# Altium schematic symbol library led.SCHLIB: 107 symbols
Pins are listed as number, name and electrical type; pins without a type are passive.

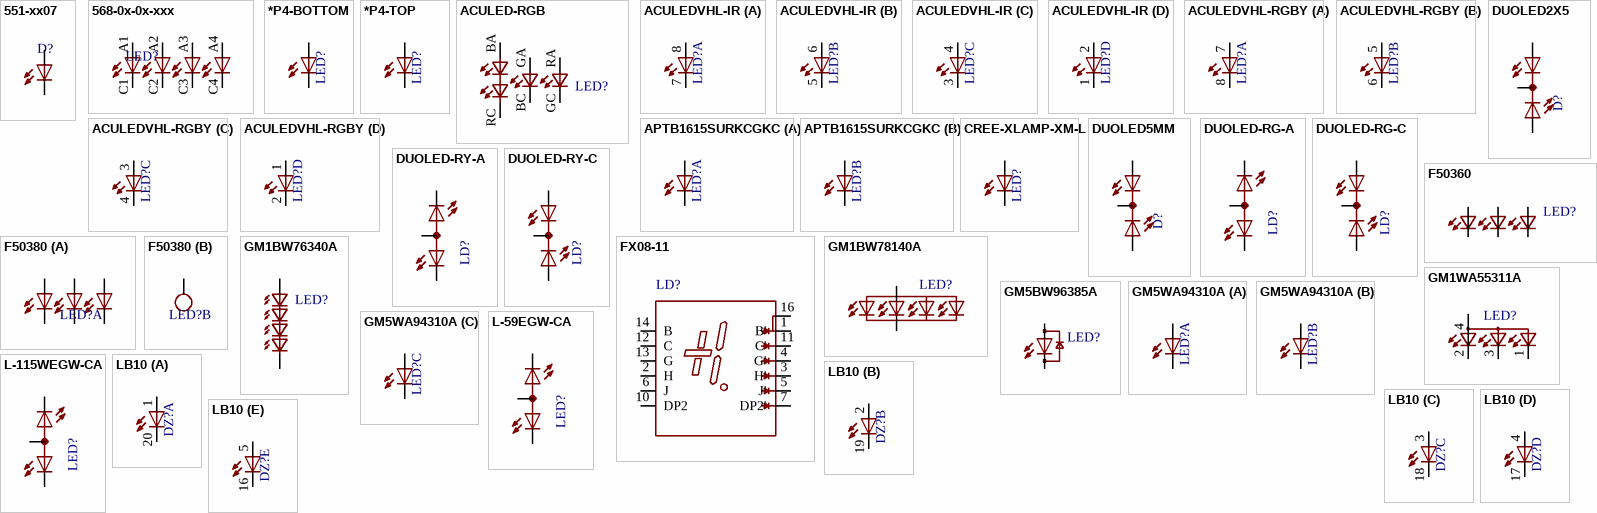
[diagram p0: symbols 551-xx07 to LB10]

## 551-xx07
designator D?
Colour: *
footprint 551-xx07 (LED CBI  Circuit Board Indicator)
pins: A, C

## 568-0x-0x-xxx
designator LED?  (value not drawn)
footprint 568-XX
pins: A1, A2, A3, A4, C1, C2, C3, C4

## *P4-BOTTOM
designator LED?
footprint P47F-BOTTOM
pins: A, C

## *P4-TOP
designator LED?
footprint P47F-TOP
pins: A, C

## ACULED-RGB
designator LED?
footprint ACULED-RGB
pins: BA GA, BC, GA BA, GC RC, RA, RC GC

## ACULEDVHL-IR
designator LED?
footprint ACULEDVHL
part A pins: 7 C, 8 A
part B pins: 5 C, 6 A
part C pins: 3 C, 4 A
part D pins: 1 C, 2 A

## ACULEDVHL-RGBY
designator LED?
footprint ACULEDVHL
part A pins: 7 A, 8 C
part B pins: 5 A, 6 C
part C pins: 3 A, 4 C
part D pins: 1 A, 2 C

## APTB1615SURKCGKC
designator LED?  (value not drawn)
Vendor: Kingbright; Part Number: APTB1615SURKCGKC
footprint APTB1615SURKCGKC
part A pins: A1, C1
part B pins: A2, C2

## CREE-XLAMP-XM-L
designator LED?
footprint CREE-XLAMP-XM-L
pins: A@1 A, C@1 C

## DUOLED2X5
designator D?
footprint DUOLED2X5
pins: AG, AR, K C

## DUOLED5MM
designator D?
footprint DUOLED5MM
pins: AG, AR, K C

## DUOLED-RG-A
designator LD?
footprint DUOLED-A-5MM
pins: A, CR, CX CG

## DUOLED-RG-C
designator LD?
footprint DUOLED-C-5MM
pins: AR, AX AG, C

## DUOLED-RY-A
designator LD?
footprint DUOLED-A-5MM
pins: A, CR, CX CY

## DUOLED-RY-C
designator LD?
footprint DUOLED-C-5MM
pins: AR, AX AY, C

## F50360
designator LED?
footprint F50360
pins: BA, BC, GA, GC, RA, RC

## F50380
designator LED?
footprint F50380
part A pins: B+, B-, G+, G-, R+, R-
part B pins: TH

## FX08-11
designator LD?
footprint FX08
pins: 1 B', 2 H, 3 H', 4 G', 5 J', 6 J, 7 DP2', 10 DP2, 11 C', 12 C, 13 G, 14 B, 16 B_

## GM1BW76340A
designator LED?
footprint GM1BW78140A
pins: A, C

## GM1BW78140A
designator LED?
footprint GM1BW78140A
pins: A, C

## GM1WA55311A
designator LED?
footprint GM1WA55311A
pins: 1 CGREEN, 2 CRED, 3 CBLUE, 4 A

## GM5BW96385A
designator LED?
footprint GM5BW96385A
pins: A, C

## GM5WA94310A
designator LED?
footprint GM5WA94310A
part A pins: 2 A, 5 C
part B pins: 3 A, 4 C
part C pins: 1 A, 6 C

## L-59EGW-CA
designator LED?
footprint L-59EGW-CA
pins: 1 CR, 2 A, 3 CG

## L-115WEGW-CA
designator LED?
footprint DUOLED-A-3MM
pins: 1 CG, 2 A, 3 CR

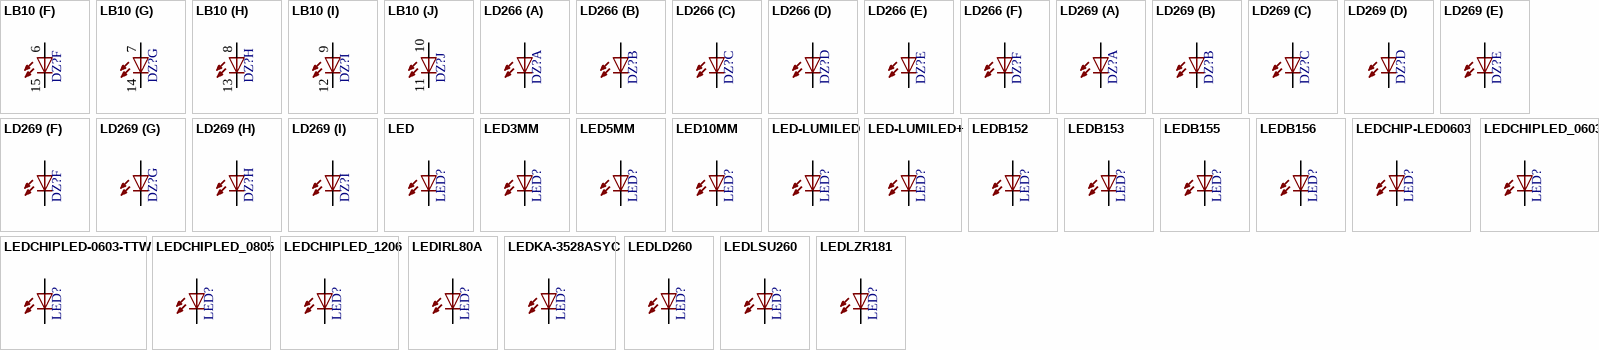
[diagram p1: symbols LB10 to LEDLZR181]

## LB10
designator DZ?
footprint LB10
part A pins: 1 A, 20 C
part B pins: 2 A, 19 C
part C pins: 3 A, 18 C
part D pins: 4 A, 17 C
part E pins: 5 A, 16 C
part F pins: 6 A, 15 C
part G pins: 7 A, 14 C
part H pins: 8 A, 13 C
part I pins: 9 A, 12 C
part J pins: 10 A, 11 C

## LD266
designator DZ?
footprint LD266
part A pins: A1 A, K1 C
part B pins: A2 A, K2 C
part C pins: A3 A, K3 C
part D pins: A4 A, K4 C
part E pins: A5 A, K5 C
part F pins: A6 A, K6 C

## LD269
designator DZ?
footprint LD269
part A pins: A1 A, K1 C
part B pins: A2 A, K2 C
part C pins: A3 A, K3 C
part D pins: A4 A, K4 C
part E pins: A5 A, K5 C
part F pins: A6 A, K6 C
part G pins: A7 A, K7 C
part H pins: A8 A, K8 C
part I pins: A9 A, K9 C

## LED
designator LED?
footprint SMARTLED-TTW
pins: A@1 A, C@1 C

## LED3MM
designator LED?
footprint LED3MM
pins: A, K C

## LED5MM
designator LED?
footprint LED5MM
pins: A, K C

## LED10MM
designator LED?
footprint LED10MM
pins: A, K C

## LED-LUMILED
designator LED?
footprint LUMILED
pins: 2+ A, 4- C

## LED-LUMILED+
designator LED?
footprint LUMILED+
pins: 2+ A, 4- C

## LEDB152
designator LED?
footprint Q62902-B152
pins: A, K C

## LEDB153
designator LED?
footprint Q62902-B153
pins: A, K C

## LEDB155
designator LED?
footprint Q62902-B155
pins: A, K C

## LEDB156
designator LED?
footprint Q62902-B156
pins: A, K C

## LEDCHIP-LED0603
designator LED?
footprint CHIP-LED0603
pins: A, C

## LEDCHIPLED-0603-TTW
designator LED?
footprint CHIPLED-0603-TTW
pins: A@1 A, C@1 C

## LEDCHIPLED_0603
designator LED?
footprint CHIPLED_0603
pins: A, C

## LEDCHIPLED_0805
designator LED?
footprint CHIPLED_0805
pins: A, C

## LEDCHIPLED_1206
designator LED?
footprint CHIPLED_1206
pins: A, C

## LEDIRL80A
designator LED?
footprint IRL80A
pins: A, K C

## LEDKA-3528ASYC
designator LED?
footprint KA-3528ASYC
pins: A, C

## LEDLD260
designator LED?
footprint LD260
pins: A, K C

## LEDLSU260
designator LED?
footprint LSU260
pins: A, K C

## LEDLZR181
designator LED?
footprint LZR181
pins: A, K C

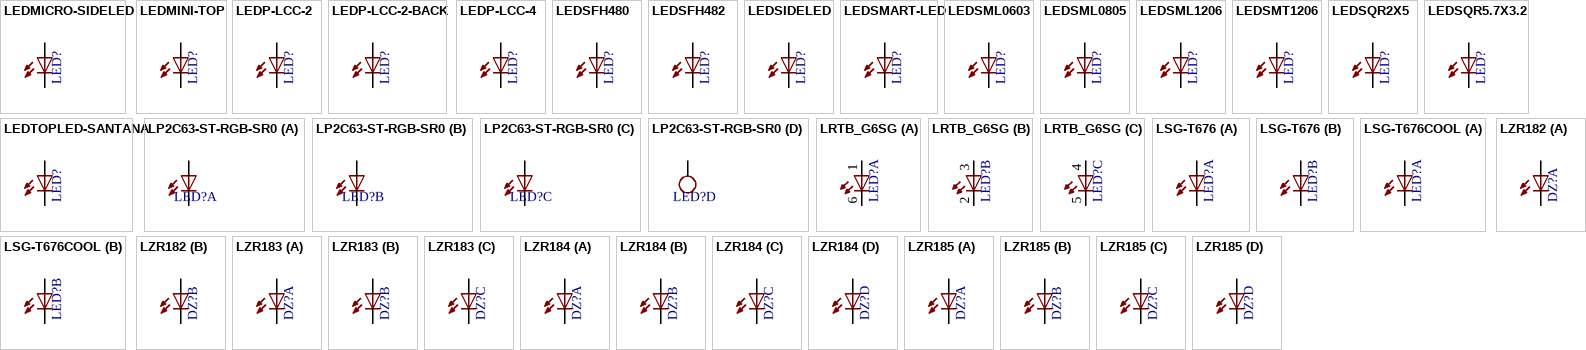
[diagram p2: symbols LEDMICRO-SIDELED to LZR185]

## LEDMICRO-SIDELED
designator LED?
footprint MICRO-SIDELED
pins: A, C

## LEDMINI-TOP
designator LED?
footprint OSRAM-MINI-TOP-LED
pins: A, C

## LEDP-LCC-2
designator LED?
footprint P-LCC-2
pins: A, C

## LEDP-LCC-2-BACK
designator LED?
footprint P-LCC-2-TOPLED-RG
pins: A, C

## LEDP-LCC-4
designator LED?
footprint P-LCC-4
pins: A, C@4 C

## LEDSFH480
designator LED?
footprint SFH480
pins: A, K C

## LEDSFH482
designator LED?
footprint SFH482
pins: A, K C

## LEDSIDELED
designator LED?
footprint OSRAM-SIDELED
pins: A, C

## LEDSMART-LED
designator LED?
footprint SMART-LED
pins: A, B C

## LEDSML0603
designator LED?
footprint SML0603
pins: A, C

## LEDSML0805
designator LED?
footprint SML0805
pins: A, C

## LEDSML1206
designator LED?
footprint SML1206
pins: A, C

## LEDSMT1206
designator LED?
footprint 1206
pins: A, C

## LEDSQR2X5
designator LED?
footprint LED2X5
pins: A, K C

## LEDSQR5.7X3.2
designator LED?
footprint U57X32
pins: A, K C

## LEDTOPLED-SANTANA
designator LED?
footprint MINI-TOPLED-SANTANA
pins: A, C

## LP2C63-ST-RGB-SR0
designator LED?
footprint LP2C63-ST-RGB-SR0
part A pins: 1 A, 6 C
part B pins: 2 A, 5 C
part C pins: 3 A, 4 C
part D pins: TH

## LRTB_G6SG
designator LED?
footprint LRTB_G6SG
part A pins: 1 A, 6 C
part B pins: 2 C, 3 A
part C pins: 4 A, 5 C

## LSG-T676
designator LED?
footprint P-LCC4-0
part A pins: 1 C, 2 A
part B pins: 3 C, 4 A

## LSG-T676COOL
designator LED?
footprint P-LCC4-T676
part A pins: 1 C, 2 A
part B pins: 3 C, 4 A

## LZR182
designator DZ?
footprint LZR182
part A pins: A1 A, K1 C
part B pins: A2 A, K2 C

## LZR183
designator DZ?
footprint LZR183
part A pins: A1 A, K1 C
part B pins: A2 A, K2 C
part C pins: A3 A, K3 C

## LZR184
designator DZ?
footprint LZR184
part A pins: A1 A, K1 C
part B pins: A2 A, K2 C
part C pins: A3 A, K3 C
part D pins: A4 A, K4 C

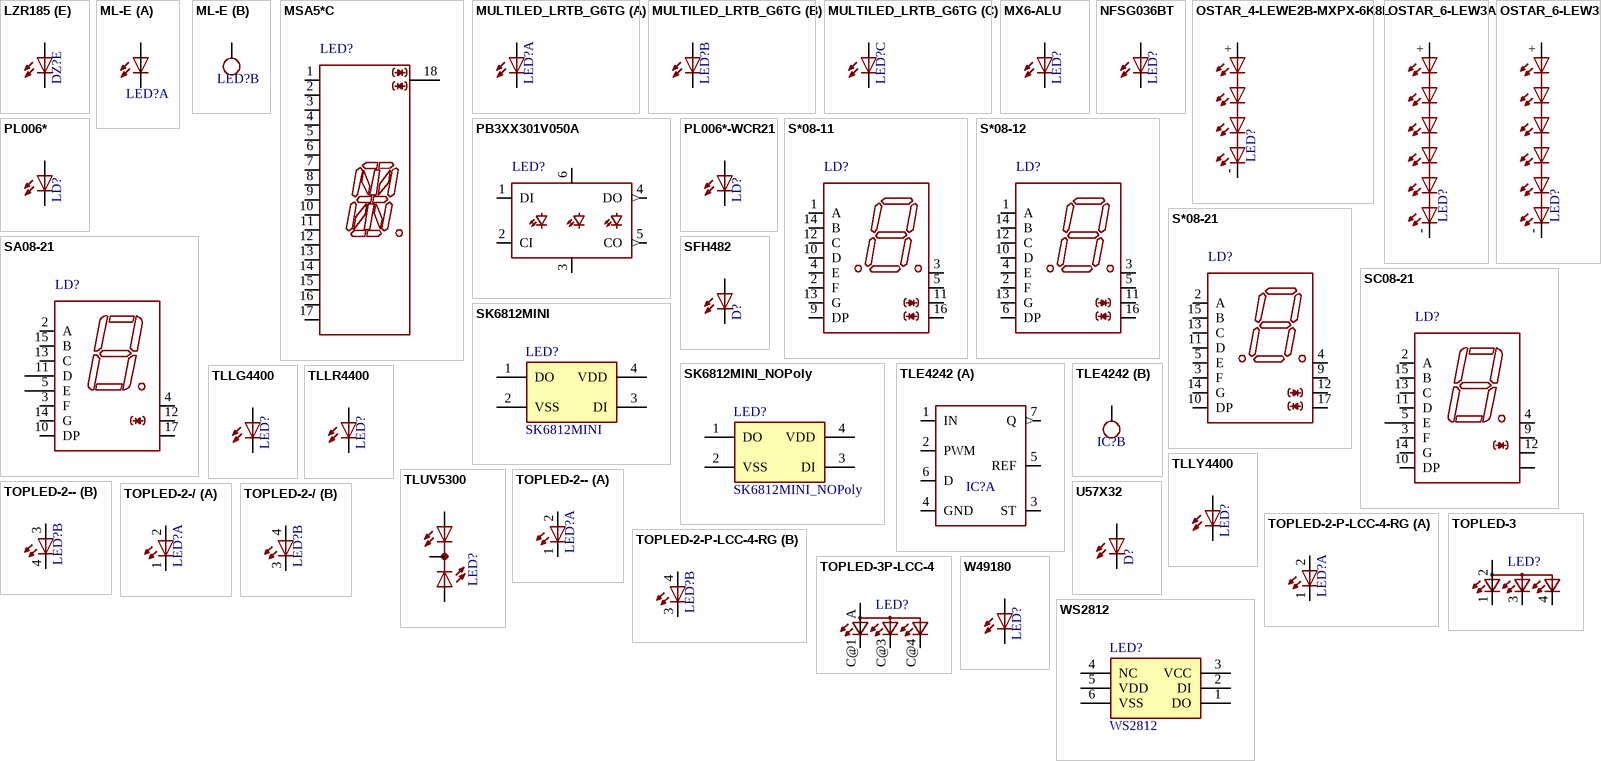
[diagram p3: symbols LZR185 to WS2812]

## LZR185
designator DZ?
footprint LZR185
part A pins: A1 A, K1 C
part B pins: A2 A, K2 C
part C pins: A3 A, K3 C
part D pins: A4 A, K4 C
part E pins: A5 A, K5 C

## ML-E
designator LED?
footprint ML-E
part A pins: A@1, A@2, C@1, C@2
part B pins: TH

## MSA5*C
designator LED?
footprint MSA5XXX
pins: 1, 2, 3, 4, 5, 6, 7, 8, 9, 10, 11, 12, 13, 14, 15, 16, 17, 18

## MULTILED_LRTB_G6TG
designator LED?
footprint P-LCC-6_TOPLED
part A pins: A1 A, C1 C
part B pins: A2 A, C2 C
part C pins: A3 A, C3 C

## MX6-ALU
designator LED?
footprint MX6-ALU
pins: A, K C

## NFSG036BT
designator LED?
footprint NFSG036BT
pins: A, C

## OSTAR_4-LEWE2B-MXPX-6K8L
designator LED?
footprint OSTAR-LENS_
pins: + A, - C

## OSTAR_6-LEW3A
designator LED?
footprint OSTAR_6-LEW3A
pins: + A, - C

## OSTAR_6-LEW3B
designator LED?
footprint OSTAR-LENS_
pins: + A, - C

## PB3XX301V050A
designator LED?
footprint PB3XX301V050A
pins: 1 DI, 2 CI, 3 VSS (power), 4 DO (out), 5 CO (out), 6 VDD (power)

## PL006*
designator LD?
footprint SOT23
pins: 1 A, 3 C

## PL006*-WCR21
designator LD?
footprint SOT23
pins: 1 C, 3 A

## S*08-11
designator LD?
footprint SA08
pins: 1 A, 2 F, 3 AK@1, 4 E, 5 AK@2, 9 DP, 10 D, 11 AK@3, 12 C, 13 G, 14 B, 16 AK@4

## S*08-12
designator LD?
footprint SA08
pins: 1 A, 2 F, 3 AK@1, 4 E, 5 AK@2, 6 DP, 10 D, 11 AK@3, 12 C, 13 G, 14 B, 16 AK@4

## S*08-21
designator LD?
footprint SA08-21
pins: 2 A, 3 F, 4 AK@1, 5 E, 9 AK@2, 10 DP, 11 D, 12 AK@3, 13 C, 14 G, 15 B, 17 AK@4

## SA08-21
designator LD?
footprint SA08-21
pins: 2 A, 3 F, 4 AN@1, 5 E, 7 E@1, 9 D@1, 10 DP, 11 D, 12 AN@2, 13 C, 14 G, 15 B, 17 AN@3

## SC08-21
designator LD?
footprint SA08-21
pins: 2 A, 3 F, 4 K@1, 5 E, 7 E@1, 9 K@2, 10 DP, 11 D, 12 K@3, 13 C, 14 G, 15 B, 17 K@4

## SFH482
designator D?
footprint SFH482
pins: A, K C

## SK6812MINI
designator LED?
SMD RGB (WS2812/SK6812MINI) 3535; Part_Number: SK6812MINI; Vendor: *; Value: *
footprint WS2812BMINI
pins: 1 DO, 2 VSS, 3 DI, 4 VDD

## SK6812MINI_NOPoly
designator LED?
SMD RGB (WS2812/SK6812MINI) 3535; Part_Number: SK6812MINI; Vendor: *; Value: *
footprint WS2812BMINI_no_poly
pins: 1 DO, 2 VSS, 3 DI, 4 VDD

## TLE4242
designator IC?
footprint P-TO263-7-1
part A pins: 1 IN, 2 PWM, 3 ST (oc), 4 GND (power), 5 REF, 6 D, 7 Q (out)
part B pins: TH

## TLLG4400
designator LED?
footprint LED3MM
pins: A, K C

## TLLR4400
designator LED?
footprint LED3MM
pins: A, K C

## TLLY4400
designator LED?
footprint LED3MM
pins: A, K C

## TLUV5300
designator LED?
footprint TLUV5300
pins: AG, AO, CC

## TOPLED-2--
designator LED?
footprint P-LCC-4-2
part A pins: 1 C, 2 A
part B pins: 3 A, 4 C

## TOPLED-2-/
designator LED?
footprint P-LCC-4/2
part A pins: 1 C, 2 A
part B pins: 3 C, 4 A

## TOPLED-2-P-LCC-4-RG
designator LED?
footprint PLCC4-TOPLED-RG
part A pins: 1 C, 2 A
part B pins: 3 C, 4 A

## TOPLED-3
designator LED?
footprint P-LCC-4-3
pins: 1 CRED, 2 A2, 3 CBLUE, 4 CGREEN

## TOPLED-3P-LCC-4
designator LED?
footprint P-LCC-4
pins: A A2, C@1 CRED, C@3 CBLUE, C@4 CGREEN

## U57X32
designator D?
footprint U57X32
pins: A, K C

## W49180
designator LED?
footprint Z-POWER-LED-DOME-TYPE
pins: A, C

## WS2812
designator LED?
SMD RGB (WS2812); Part_Number: COM-11821; Vendor: *; Value: *
footprint COM-11821
pins: 1 DO, 2 DI, 3 VCC, 4 NC, 5 VDD, 6 VSS

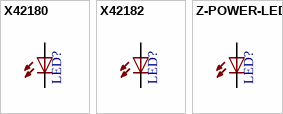
[diagram p4: symbols X42180 to Z-POWER-LED]

## X42180
designator LED?
footprint Z-POWER-LED-DOME-TYPE
pins: A, C

## X42182
designator LED?
footprint Z-POWER-LED-DOME-TYPE
pins: A, C

## Z-POWER-LED
designator LED?
footprint Z-POWER-LED-PCB-TYPE
pins: A, C